# Altium schematic symbol library SCH - LOGIC - DIODES INC 74AHC1G86.SchLib: 1 symbol
Pins are listed as number, name and electrical type; pins without a type are passive.

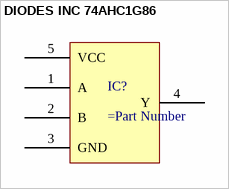
[diagram p0: symbol DIODES INC 74AHC1G86]

## DIODES INC 74AHC1G86
designator IC?
pins: 1 A, 2 B, 3 GND, 4 Y, 5 VCC